# EAGLE library part 2X5_HEADER (library CONNECTORs)
A 2 row, 5 column, 10 pin 0.1" header.
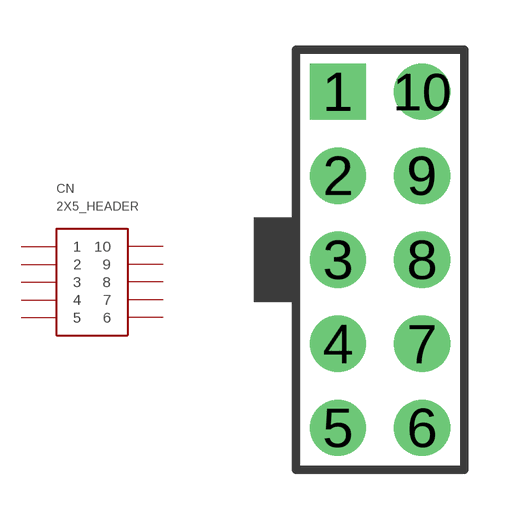
[diagram p3: symbol with the pads of 5X2_2.54MMHEADER; footprint 5X2_2.54MMHEADER]

Designator prefix CN

## 2X5_HEADER (DIGIKEY: 1849-1002-ND; HEIGHT: 8.6; PRICE_PER: 0.12; VALUE: 2X5 HEADER)  [5X2_2.54MMHEADER]
1  1
2  2
3  3
4  4
5  5
6  6
7  7
8  8
9  9
10  10

## Footprint 5X2_2.54MMHEADER (pad centres in mm)
drill 1 pad 1.7 square: 1 -1.27,5.08
drill 1 pad 1.7: 2 -1.27,2.54; 3 -1.27,0; 4 -1.27,-2.54; 5 -1.27,-5.08; 6 1.27,-5.08; 7 1.27,-2.54; 8 1.27,0; 9 1.27,2.54; 10 1.27,5.08